# Altium footprint library Unified Connectors.PcbLib: 8 footprints
Each footprint in its own frame and in the unit in brackets; x right, y up, seen from the top. Pads: shape width x height; smd on the part's side, far side on the other; paste and mask are expansions set on the pad; w line width, h text height; cw(c..) or ccw(c..) is an arc to the next point about the centre after c.
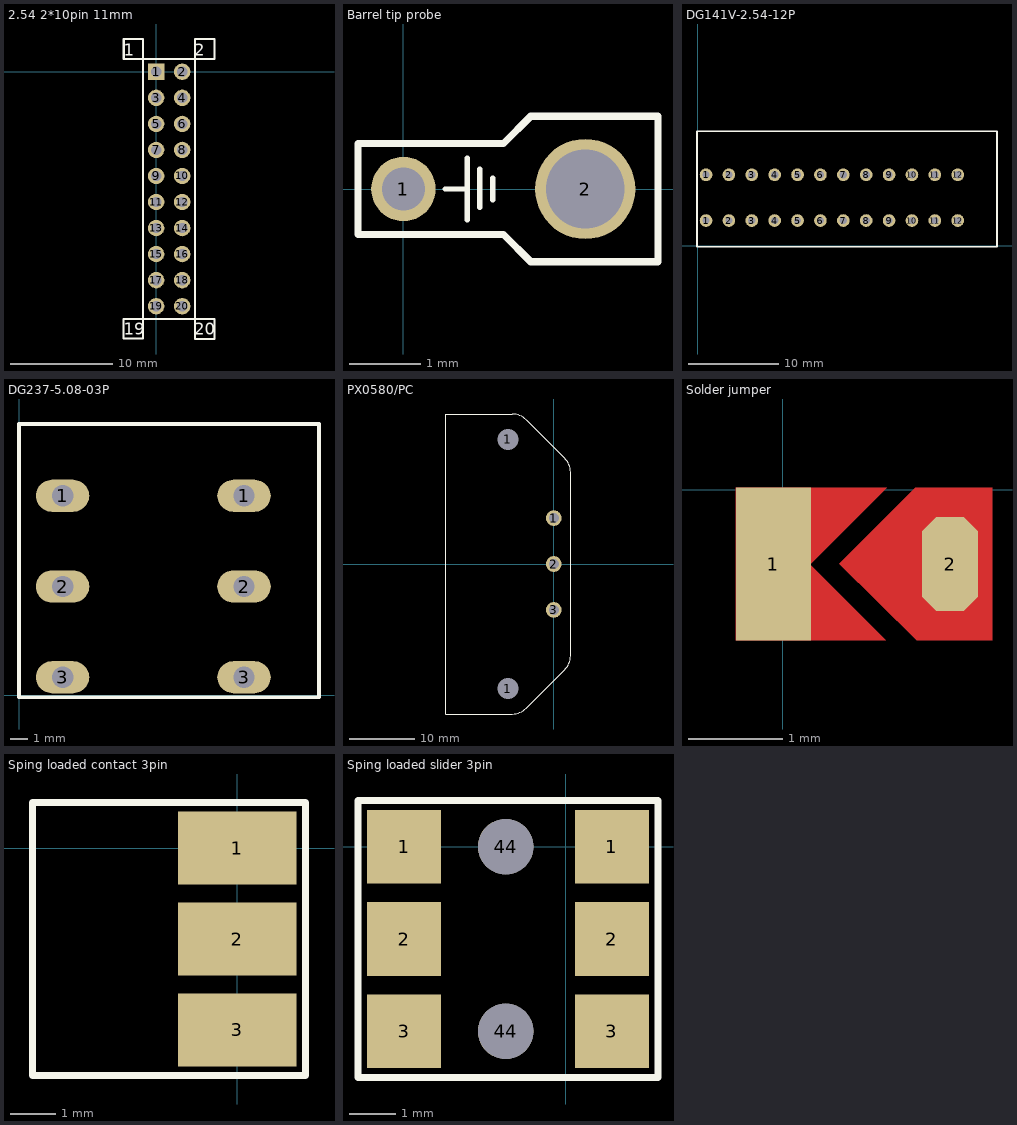
[diagram p0: the footprints below, top view; thin cyan lines are the x and y axes]

## 2.54 2*10pin 11mm [mm]
pads (20):
  rect 1.6x1.6 hole 1: 1(0,0)
  round 1.6 hole 1: 2(2.54,0) 3(0,-2.54) 4(2.54,-2.54) 5(0,-5.08) 6(2.54,-5.08) 7(0,-7.62) 8(2.54,-7.62) 9(0,-10.16) 10(2.54,-10.16) 11(0,-12.7) 12(2.54,-12.7) 13(0,-15.24) 14(2.54,-15.24) 15(0,-17.78) 16(2.54,-17.78) 17(0,-20.32) 18(2.54,-20.32) 19(0,-22.86) 20(2.54,-22.86)
Top Overlay:
  lines w0.2: -1.27,-24.12 -1.27,-26.02 -3.2,-26.02 -3.2,-24.12 -1.257,-24.12 ; -1.27,1.071 -1.27,1.27 ; -1.26,1.257 -1.26,3.2 -3.16,3.2 -3.16,1.27 -1.26,1.27 ; 3.8,-24.13 5.7,-24.13 5.7,-26.06 3.8,-26.06 3.8,-24.117 ; 3.8,1.27 5.7,1.27 5.7,3.2 3.8,3.2 3.8,1.257 3.81,1.257 ; -1.27,1.27 3.81,1.27 3.81,-24.13 -1.27,-24.13 -1.27,1.27
  text "1" at -3.17,1.17 h2
  text "2" at 3.71,1.17 h2
  text "20" at 3.71,-26.03 h2
  text "19" at -3.17,-26.03 h2
3D body "2.54_2x10.STEP": height 8.27, standoff -9.37, extent -1.24,-24.1 3.84,1.3

## Barrel tip probe [mm] "Testpoint"
pads (2):
  round 0.9 hole 0.6: 1(0,0)
  round 1.4 hole 1.1: 2(2.54,0)
Top Overlay:
  lines w0.076: 0.584,0 0.889,0 ; 0.889,-0.432 0.889,0.432 ; 1.067,-0.254 1.067,0.279 ; 1.245,-0.152 1.245,0.152
  lines w0.1: -0.508,0.635 1.397,0.635 1.778,1.016 3.556,1.016 3.556,0.61 3.556,-1.016 1.778,-1.016 1.397,-0.635 -0.635,-0.635 -0.635,0.635 -0.483,0.635
Top Designator:
  text "XS?" at -0.281,0.75 h0.5

## DG141V-2.54-12P [mm]
pads (24):
  round 1.4 hole 0.8: 1(0.9,2.8) 1(0.9,7.88) 2(3.44,2.8) 2(3.44,7.88) 3(5.98,2.8) 3(5.98,7.88) 4(8.52,2.8) 4(8.52,7.88) 5(11.06,2.8) 5(11.06,7.88) 6(13.6,2.8) 6(13.6,7.88) 7(16.14,2.8) 7(16.14,7.88) 8(18.68,2.8) 8(18.68,7.88) 9(21.22,2.8) 9(21.22,7.88) 10(23.76,2.8) 10(23.76,7.88) 11(26.3,2.8) 11(26.3,7.88) 12(28.84,2.8) 12(28.84,7.88)
Top Overlay:
  lines w0.2: -0.1,-0.1 -0.1,12.7 33.2,12.7 33.2,-0.1 -0.1,-0.1
3D body "DG141V-2.54-12.STEP": height 13.6, standoff -3.5, extent 0.08,0 33.1,12.6

## DG237-5.08-03P [mm]
pads (6):
  oval 3x1.8 hole 1.2: 1(2.417,11.18) 1(12.577,11.18) 2(2.417,6.1) 2(12.577,6.1) 3(2.417,1.02) 3(12.577,1.02)
Top Overlay:
  lines w0.2: -0.023,-0.1 -0.023,15.2 16.777,15.2 16.777,-0.1 -0.023,-0.1
3D body "DG237-5.08-03P-1Y-00A(H).stp": height 13.2, standoff -3.99, extent 0,0 16.755,15.24

## PX0580/PC [mm]
pads (5):
  round 2.4 hole 3.2 unplated: 1(-7,-19) 1(-7,19)
  round 2.4 hole 1.5: 1(0,7) 2(0,0) 3(0,-7)
Top Overlay:
  lines w0.15: -16.51,-22.86 -16.51,22.86 -6.35,22.86 cw(c-6.35,19.794) -4.182,21.962 1.642,16.138 cw(c-0.526,13.97) 2.54,13.97 2.54,12.7 2.54,7.62 2.54,-13.97 cw(c-0.526,-13.97) 1.642,-16.138 -4.182,-21.962 cw(c-6.35,-19.794) -6.35,-22.86 -16.51,-22.86
3D body "px0580-pc.stp": height 27.76, standoff -3.67, extent -20.78,-24.88 2.82,24.88

## Solder jumper [mm]
pads (2):
  rect 0.8x1.625 smd: 1(-0.102,-0.787)
  oct 0.6x1 smd: 2(1.778,-0.787)
Top Layer:
  region: -0.502,-1.581 1.105,0.026 -0.502,0.025
  region: -0.502,-0.006 1.092,-1.6 -0.502,-1.6
  region: 0.597,-0.787 1.422,-1.6 2.229,-1.6 2.229,0.025 1.409,0.025
Top Solder:
  region: 1.448,0.127 1.448,-1.702 0.305,-1.702 0.305,0.127

## Sping loaded contact 3pin [mm]
height 2
pads (3):
  rect 2.6x1.6 smd: 1(0,0) 2(0,-2) 3(0,-4)
Top Overlay:
  lines w0.15: -4.5,-5 1.5,-5 1.5,1 -4.5,1 -4.5,-5
3D body "SMT 2mm 3pin.x_t": height 3.3, standoff 0, extent -4.5,-5 1.5,1

## Sping loaded slider 3pin [mm]
height 2
pads (8):
  rect 1.6x1.6 smd: 1(-3.5,0) 1(1,0) 2(-3.5,-2) 2(1,-2) 3(-3.5,-4) 3(1,-4)
  round 1.2 hole 1.2 unplated: 44(-1.3,-4) 44(-1.3,0)
Top Overlay:
  lines w0.15: -4.5,-5 2,-5 2,1 -4.5,1 -4.5,-5
3D body "SMT 2mm 3pin female.STEP": height 1.27, standoff -0.6, extent -4.55,-5 1.95,1